# Altium footprint library PcbLib1.PcbLib: 1 footprints
Each footprint in its own frame and in the unit in brackets; x right, y up, seen from the top. Pads: shape width x height; smd on the part's side, far side on the other; paste and mask are expansions set on the pad; w line width, h text height; cw(c..) or ccw(c..) is an arc to the next point about the centre after c.
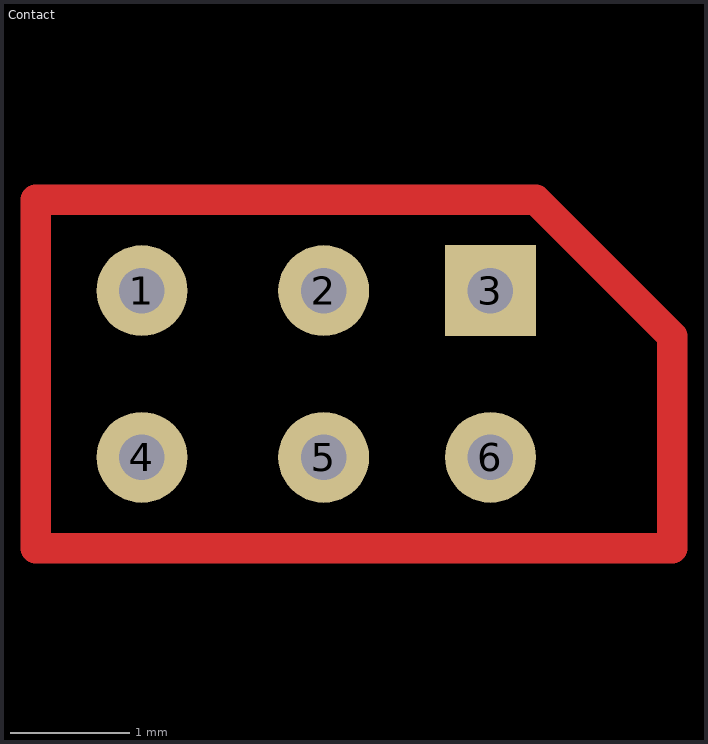
[diagram p0: the footprint, top view; thin cyan lines are the x and y axes]

## Contact [mil]
pads (6):
  round 30 hole 15: 1(-780,1375) 2(-720,1375) 4(-780,1320) 5(-720,1320) 6(-665,1320)
  rect 30x30 hole 15: 3(-665,1375)
Top Layer:
  lines w10: -815,1290 -815,1390 -815,1405 -650,1405 -605,1360 -605,1290 -815,1290